# Altium schematic symbol library CardHolder.SchLib: 3 symbols
Pins are listed as number, name and electrical type; pins without a type are passive.

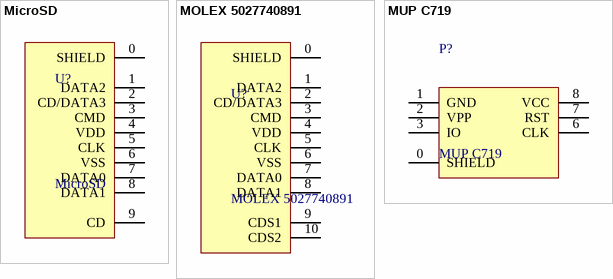
[diagram p0: symbols MicroSD to MUP C719]

## MicroSD
designator U?
footprint Micro_SD_slot
pins: 0 SHIELD, 1 DATA2, 2 CD/DATA3, 3 CMD, 4 VDD, 5 CLK, 6 VSS, 7 DATA0, 8 DATA1, 9 CD
2 alternate drawings of the same symbol

## MOLEX 5027740891
designator U?
1.10mm Pitch microSD Memory Card Connector, Reverse Mount Surface Mount, Push-Push Type
footprint MOLEX 5027740891 (1.10mm Pitch microSD Memory Card Connector, Reverse Mount Surface Mount, Push-Push Type)
pins: 0 SHIELD, 1 DATA2, 2 CD/DATA3, 3 CMD, 4 VDD, 5 CLK, 6 VSS, 7 DATA0, 8 DATA1, 9 CDS1, 10 CDS2
2 alternate drawings of the same symbol

## MUP C719
designator P?
SIM Connectors and Cardholders
footprint MUP C719
pins: 0 SHIELD, 1 GND, 2 VPP, 3 IO, 6 CLK, 7 RST, 8 VCC